# EAGLE library part RN171 (library SparkFun-RF)
WiFi Module
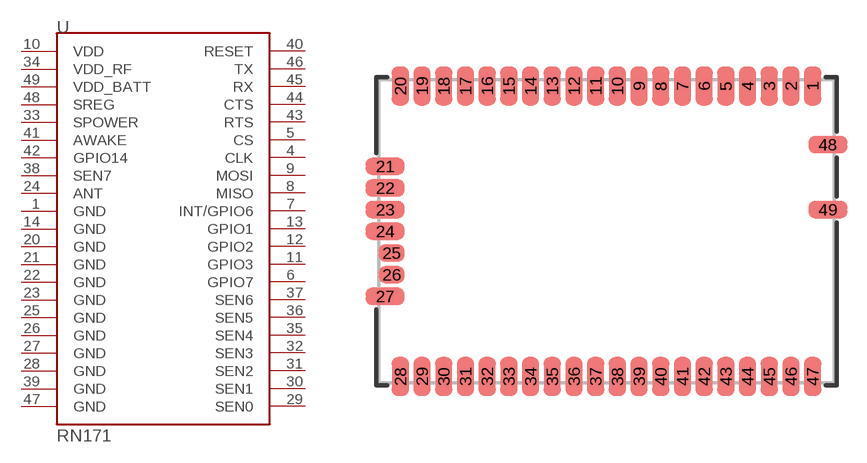
[diagram p38: symbol with the pads of RN171; footprint RN171]

Designator prefix U

## RN171RN171  [RN171]
1  GND
4  CLK
5  CS
6  GPIO7
7  INT/GPIO6
8  MISO
9  MOSI
10  VDD
11  GPIO3
12  GPIO2
13  GPIO1
14  GND
20  GND
21  GND
22  GND
23  GND
24  ANT
25  GND
26  GND
27  GND
28  GND
29  SEN0
30  SEN1
31  SEN2
32  SEN3
33  SPOWER
34  VDD_RF
35  SEN4
36  SEN5
37  SEN6
38  SEN7
39  GND
40  RESET
41  AWAKE
42  GPIO14
43  RTS
44  CTS
45  RX
46  TX
47  GND
48  SREG
49  VDD_BATT

## Footprint RN171 (pad centres in mm)
RN-171, FP pad size: 40mil x 90mil
smd 1.016 x 2.286: 1 12.065,8.509; 2 10.795,8.509; 3 9.525,8.509; 4 8.255,8.509; 5 6.985,8.509; 6 5.715,8.509; 7 4.445,8.509; 8 3.175,8.509; 9 1.905,8.509; 10 0.635,8.509; 11 -0.635,8.509; 12 -1.905,8.509; 13 -3.175,8.509; 14 -4.445,8.509; 15 -5.715,8.509; 16 -6.985,8.509; 17 -8.255,8.509; 18 -9.525,8.509; 19 -10.795,8.509; 20 -12.065,8.509; 28 -12.065,-8.509; 29 -10.795,-8.509; 30 -9.525,-8.509; 31 -8.255,-8.509; 32 -6.985,-8.509; 33 -5.715,-8.509; 34 -4.445,-8.509; 35 -3.175,-8.509; 36 -1.905,-8.509; 37 -0.635,-8.509; 38 0.635,-8.509; 39 1.905,-8.509; 40 3.175,-8.509; 41 4.445,-8.509; 42 5.715,-8.509; 43 6.985,-8.509; 44 8.255,-8.509; 45 9.525,-8.509; 46 10.795,-8.509; 47 12.065,-8.509
smd 2.286 x 1.016: 21 -12.954,3.81; 22 -12.954,2.54; 23 -12.954,1.27; 24 -12.954,0; 27 -12.954,-3.81; 48 12.954,5.08; 49 12.954,1.27
smd 1.524 x 1.016: 25 -12.573,-1.27; 26 -12.573,-2.54